# EAGLE library part MCP23008* (library IC_Interface)
8-Bit I/O Expander with Serial Interface Datasheet <https://ww1.microchip.com/downloads/en/DeviceDoc/21919e.pdf>
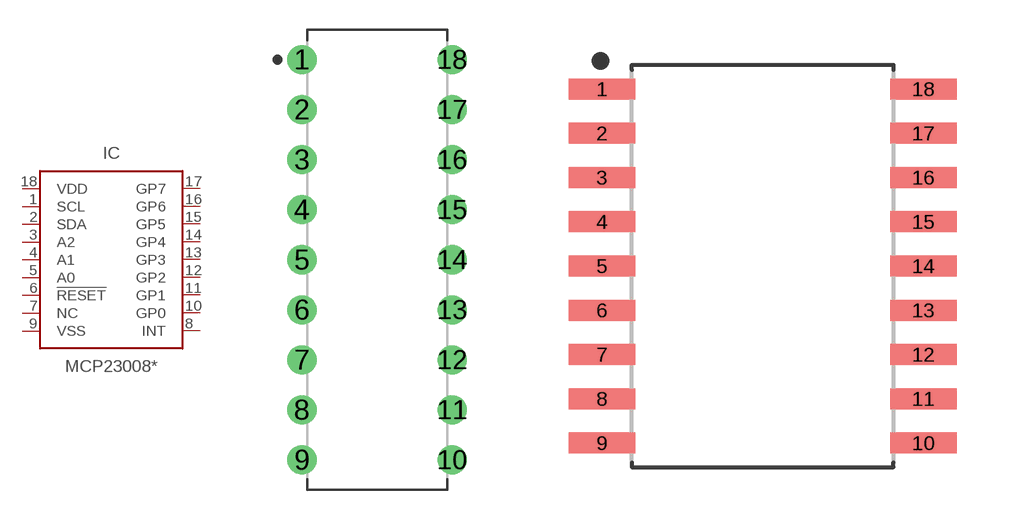
[diagram p18: symbol with the pads of DIP762W56P254L2286H530Q18B; footprints DIP762W56P254L2286H530Q18B, SOIC127P1030X265-18N]

Designator prefix IC

## MCP23008-E/P-PDIP (CATEGORY: IC_Interface; DESCRIPTION: I/O Expander 8 I²C 1.7MHz 18-PDIP; MANUFACTURER: Microchip Technology; MPN: MCP23008-E/P; OPERATING_TEMP: -40°C to 125°C; PART_STATUS: Active; ROHS_COMPLIANT: COMPLIANT; SUB-CATEGORY: I/O Expander; TYPE: 8 bit; VALUE: MCP23008)  [DIP762W56P254L2286H530Q18B]
1  SCL  in
2  SDA
3  A2  in
4  A1  in
5  A0  in
6  !RESET  in
7  NC  nc
8  INT  out
9  VSS  pwr
10  GP0
11  GP1
12  GP2
13  GP3
14  GP4
15  GP5
16  GP6
17  GP7
18  VDD  pwr

## MCP23008-E/SO-SOIC (CATEGORY: IC_Interface; DESCRIPTION: 8-Bit I/O Expander with Serial Interface; MANUFACTURER: Microchip Technology; MPN: MCP23008-E/SO; OPERATING_TEMP: -40°C to 125°C; PART_STATUS: Active; ROHS_COMPLIANT: COMPLIANT; SUB-CATEGORY: I/O Expander; TYPE: 8 bit; VALUE: MCP23008)  [SOIC127P1030X265-18N]
Pads as for DIP762W56P254L2286H530Q18B

## Footprint DIP762W56P254L2286H530Q18B (pad centres in mm)
18-DIP, 2.54 mm (0.10 in) pitch, 7.62 mm (0.30 in) span, 22.86 X 6.60 X 5.30 mm body 18-pin DIP package with 2.54 mm (0.10 in) pitch, 7.62 mm (0.30 in) span with body size 22.86 X 6.60 X 5.30 mm
drill 0.877 pad 1.477: 1 -3.81,10.16; 2 -3.81,7.62; 3 -3.81,5.08; 4 -3.81,2.54; 5 -3.81,0; 6 -3.81,-2.54; 7 -3.81,-5.08; 8 -3.81,-7.62; 9 -3.81,-10.16; 10 3.81,-10.16; 11 3.81,-7.62; 12 3.81,-5.08; 13 3.81,-2.54; 14 3.81,0; 15 3.81,2.54; 16 3.81,5.08; 17 3.81,7.62; 18 3.81,10.16

## Footprint SOIC127P1030X265-18N (pad centres in mm)
18-SOIC, 1.27 mm pitch, 10.30 mm span, 11.55 X 7.50 X 2.65 mm body 18-pin SOIC package with 1.27 mm pitch, 10.30 mm span with body size 11.55 X 7.50 X 2.65 mm
smd 1.904 x 0.602: 1 -4.606,5.08; 2 -4.606,3.81; 3 -4.606,2.54; 4 -4.606,1.27; 5 -4.606,0; 6 -4.606,-1.27; 7 -4.606,-2.54; 8 -4.606,-3.81; 9 -4.606,-5.08; 10 4.606,-5.08; 11 4.606,-3.81; 12 4.606,-2.54; 13 4.606,-1.27; 14 4.606,0; 15 4.606,1.27; 16 4.606,2.54; 17 4.606,3.81; 18 4.606,5.08